# Altium schematic symbol library Miscellaneous.SchLib: 4 symbols
Pins are listed as number, name and electrical type; pins without a type are passive.

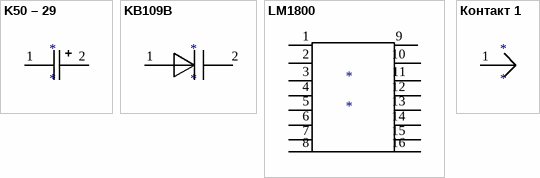
[diagram p0: symbols K50 – 29 to Контакт 1]

## K50 – 29
designator *
footprint K50 – 29
pins: 1 0, 2 1

## KB109B
designator *
footprint KB109B
pins: 1 2, 2 3

## LM1800
designator *
footprint LM1800
pins: 1 4, 2 5, 3 6, 4 7, 5 8, 6 9, 7 10, 8 11, 9 12, 10 13, 11 14, 12 15, 13 16, 14 17, 15 18, 16 19

## Контакт 1
designator *
pins: 1 20